# Altium footprint library 93AA66C-ISN.PcbLib: 3 footprints
Each footprint in its own frame and in the unit in brackets; x right, y up, seen from the top. Pads: shape width x height; smd on the part's side, far side on the other; paste and mask are expansions set on the pad; w line width, h text height; cw(c..) or ccw(c..) is an arc to the next point about the centre after c.
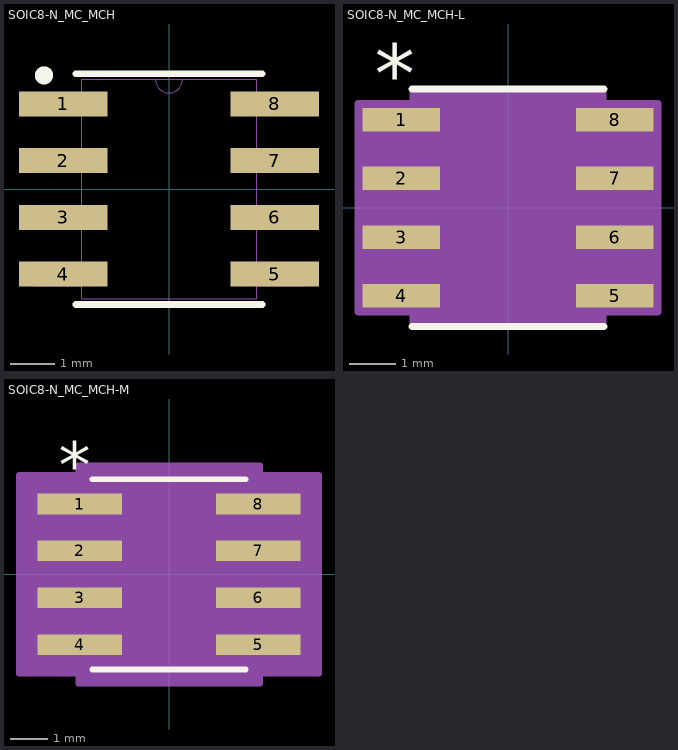
[diagram p0: the footprints below, top view; thin cyan lines are the x and y axes]

## SOIC8-N_MC_MCH [mil]
pads (8):
  rect 78x22 smd paste+0 mask+0: 1(-93,75) 2(-93,25) 3(-93,-25) 4(-93,-75) 5(93,-75) 6(93,-25) 7(93,25) 8(93,75)
Top Overlay:
  circle w10: c-110,100 r3
  lines w6: -82,-101.5 82,-101.5 ; -82,101.5 82,101.5
Mechanical 13:
  lines w1: -12,96.5 ccw(c0,96.5) 12,96.5 ; -118,-85 -77,-85 -77,-65 -118,-65 -118,-85 ; -118,-35 -77,-35 -77,-15 -118,-15 -118,-35 ; -118,15 -77,15 -77,35 -118,35 -118,15 ; -118,65 -77,65 -77,85 -118,85 -118,65 ; -77,-96.5 -77,96.5 77,96.5 77,-96.5 -77,-96.5 ; 77,-85 118,-85 118,-65 77,-65 77,-85 ; 77,-35 118,-35 118,-15 77,-15 77,-35 ; 77,15 118,15 118,35 77,35 77,15 ; 77,65 118,65 118,85 77,85 77,65
3D body "SOIC8-N_MC_MCH.step": height 69.09, standoff 0, extent -117.99,-96.5 117.99,96.5

## SOIC8-N_MC_MCH-L [mil]
pads (8):
  rect 66x20 smd paste+0 mask+0: 1(-91,75) 2(-91,25) 3(-91,-25) 4(-91,-75) 5(91,-75) 6(91,-25) 7(91,25) 8(91,75)
Top Overlay:
  lines w6: -82,-101.5 82,-101.5 ; -82,101.5 82,101.5
  text ".Designator" at -137.5,-25 h50
  text "*" at -113.5,90 h50
Mechanical 13:
  lines w1: -12,96.5 ccw(c0,96.5) 12,96.5 ; -118,-85 -118,-65 -77,-65 -77,-85 -118,-85 ; -118,-35 -118,-15 -77,-15 -77,-35 -118,-35 ; -118,15 -118,35 -77,35 -77,15 -118,15 ; -118,65 -118,85 -77,85 -77,65 -118,65 ; -77,-96.5 77,-96.5 77,96.5 -77,96.5 -77,-96.5 ; 77,-85 77,-65 118,-65 118,-85 77,-85 ; 77,-35 77,-15 118,-15 118,-35 77,-35 ; 77,15 77,35 118,35 118,15 77,15 ; 77,65 77,85 118,85 118,65 77,65
  text "*" at -74.5,43.5 h50
  text ".Designator" at -137.5,-25 h50
Mechanical 15:
  region: -81,-89 -128,-89 -128,89 -81,89 -81,100.5 81,100.5 81,89 128,89 128,-89 81,-89 81,-100.5 -81,-100.5
  lines w6: -128,-89 -128,89 -81,89 -81,100.5 81,100.5 81,89 128,89 128,-89 81,-89 81,-100.5 -81,-100.5 -81,-89 -128,-89
3D body "SOIC8-N_MC_MCH.step": height 69.09, standoff 0, extent -117.99,-96.5 117.99,96.5

## SOIC8-N_MC_MCH-M [mil]
pads (8):
  rect 90x22 smd paste+0 mask+0: 1(-95,75) 2(-95,25) 3(-95,-25) 4(-95,-75) 5(95,-75) 6(95,-25) 7(95,25) 8(95,75)
Top Overlay:
  lines w6: -82,-101.5 82,-101.5 ; -82,101.5 82,101.5
  text ".Designator" at -137.5,-25 h50
  text "*" at -117.5,92 h50
Mechanical 13:
  lines w1: -12,96.5 ccw(c0,96.5) 12,96.5 ; -118,-85 -118,-65 -77,-65 -77,-85 -118,-85 ; -118,-35 -118,-15 -77,-15 -77,-35 -118,-35 ; -118,15 -118,35 -77,35 -77,15 -118,15 ; -118,65 -118,85 -77,85 -77,65 -118,65 ; -77,-96.5 77,-96.5 77,96.5 -77,96.5 -77,-96.5 ; 77,-85 77,-65 118,-65 118,-85 77,-85 ; 77,-35 77,-15 118,-15 118,-35 77,-35 ; 77,15 77,35 118,35 118,15 77,15 ; 77,65 77,85 118,85 118,65 77,65
  text "*" at -74.5,43.5 h50
  text ".Designator" at -137.5,-25 h50
Mechanical 15:
  region: -97,-106 -160,-106 -160,106 -97,106 -97,116.5 97,116.5 97,106 160,106 160,-106 97,-106 97,-116.5 -97,-116.5
  lines w6: -160,-106 -160,106 -97,106 -97,116.5 97,116.5 97,106 160,106 160,-106 97,-106 97,-116.5 -97,-116.5 -97,-106 -160,-106
3D body "SOIC8-N_MC_MCH.step": height 69.09, standoff 0, extent -117.99,-96.5 117.99,96.5